# EAGLE library part 5102159-4 (library Tyco_By_element14_Batch_1)
WIRE-BOARD CONN, HEADER, 20POS, 2.54MM
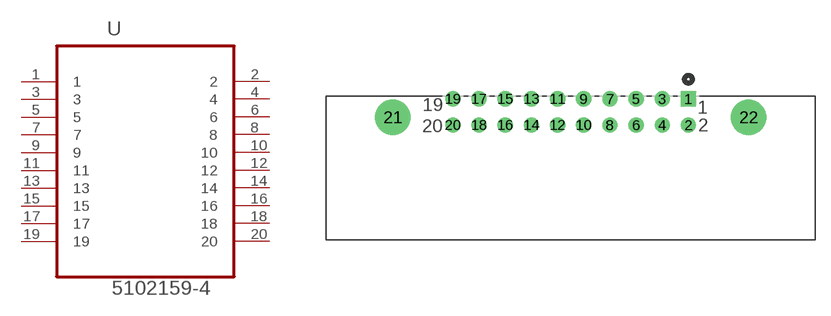
[diagram p74: symbol with the pads of TYCO_5102159-4; footprint TYCO_5102159-4]

Designator prefix U

## 5102159-4 (MPN: 5102159-4; OC_FARNELL: 1821906; OC_NEWARK: 42K6983; PACKAGE: HEADER, 20POS, 2.54MM; SUPPLIER: TycoElectronics)  [TYCO_5102159-4]
1  1  pas
2  2  pas
3  3  pas
4  4  pas
5  5  pas
6  6  pas
7  7  pas
8  8  pas
9  9  pas
10  10  pas
11  11  pas
12  12  pas
13  13  pas
14  14  pas
15  15  pas
16  16  pas
17  17  pas
18  18  pas
19  19  pas
20  20  pas

## Footprint TYCO_5102159-4 (pad centres in mm)
drill 0.965 square: 1 22.86,2.54
drill 0.965: 2 22.86,0; 3 20.32,2.54; 4 20.32,0; 5 17.78,2.54; 6 17.78,0; 7 15.24,2.54; 8 15.24,0; 9 12.7,2.54; 10 12.7,0; 11 10.16,2.54; 12 10.16,0; 13 7.62,2.54; 14 7.62,0; 15 5.08,2.54; 16 5.08,0; 17 2.54,2.54; 18 2.54,0; 19 0,2.54; 20 0,0
drill 2.438: 21 -5.842,0.737; 22 28.702,0.737